# Altium integrated library ON Semi ESD Protection Diodes & Arrays.IntLib: 286 symbols (part 2 of 8)
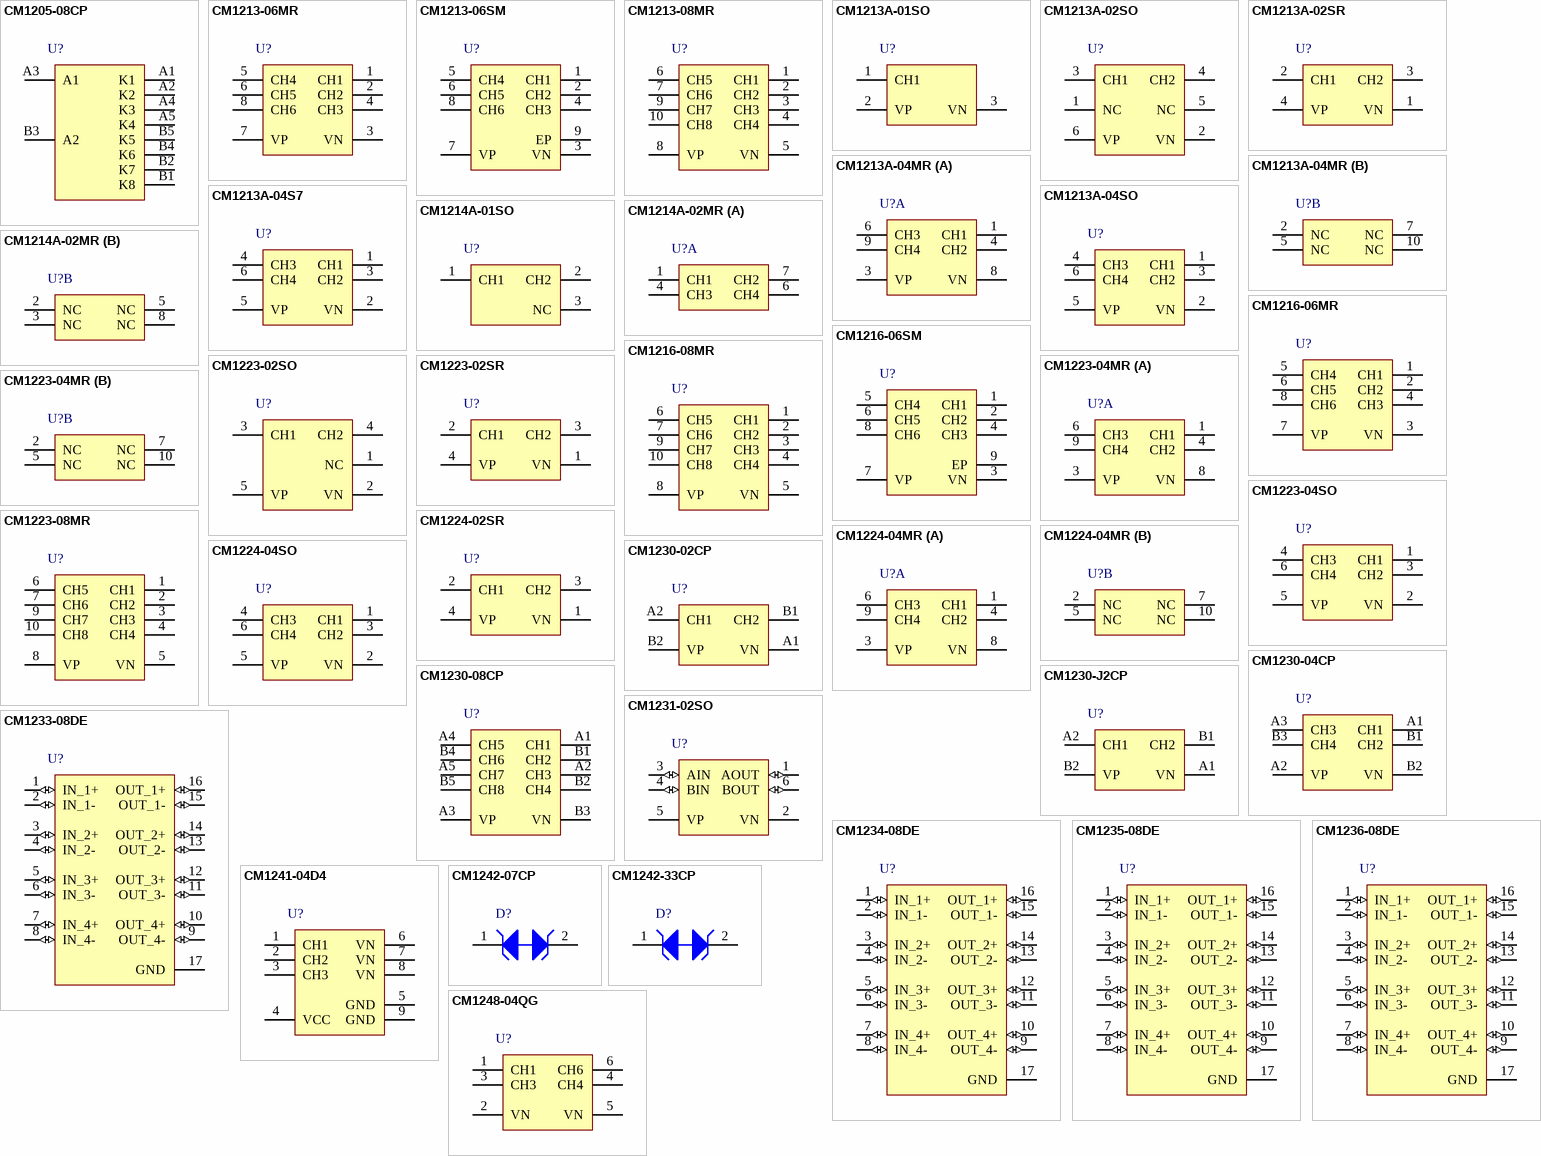
[diagram p8: symbols CM1205-08CP to CM1248-04QG]

## CM1241-04D4
designator U?
4-Channel Low Capacitance Dual-Voltage ESD Protection Array, 8-Pin WDFN, Pb-Free, Tape and Reel; Manufacturer: On Semiconductor; PartNumber: CM1241-04D4; C Max (pF): 1.5; Direction: Unidirectional; IR Max (uA): 0.1; Number of Lines: 4; DatasheetVersion: Rev. 4; PackageVersion: Rev. O, 07/2010; PackageReference: WDFN-8-511BF-01; PackageDescription: 8-Pin Small Outline No-Lead, Body 1.7 x 1.35 mm, Pitch 0.4 mm; Supplier 1: Digi-Key; Supplier Part Number 1: CM1241-04D4OSTR-ND; Supplier 2: Digi-Key; Supplier Part Number 2: CM1241-04D4OSCT-ND; Supplier 3: Digi-Key; Supplier Part Number 3: CM1241-04D4OSDKR-ND; Supplier 4: Farnell; Supplier Part Number 4: 1961705; Supplier 5: Newark; Supplier Part Number 5: 99R2534; Supplier 6: Mouser; Supplier Part Number 6: 748-CM1241-04D4; Packing: Tape and Reel; RoHS: Pb-Free; Mounting Technology: Surface Mount; ComponentLink1Description: Manufacturer URL; ComponentLink1URL: http://www.onsemi.com/; ComponentLink2Description: Datasheet; ComponentLink2URL: http://www.onsemi.com/pub_link/Collateral/CM1241-D.PDF; ComponentLink3Description: Package Specification; ComponentLink3URL: http://www.onsemi.com/pub_link/Collateral/511BF.PDF
footprint ONSC-WDFN-8-511BF-01_V (SON, 8-Leads, Body 1.7x1.35mm, Pitch 0.4mm, Thermal Pad 1.3x0.5mm)
pins: 1 CH1 "LV Low-capacitance ESD Channel", 2 CH2 "LV Low-capacitance ESD Channel", 3 CH3 "LV Low-capacitance ESD Channel", 4 VCC (power) "HV ESD Channel", 5 GND (power) "Ground", 6 VN (power) "Negative Voltage Supply Rail", 7 VN (power) "Negative Voltage Supply Rail", 8 VN (power) "Negative Voltage Supply Rail", 9 GND (power) "Die Attach Pad (Ground)"

## CM1242-07CP
designator D?
1-Channel Ultra Small ESD Protection Device, 2-Pin WLCSP, Pb-Free, Tape and Reel; Manufacturer: On Semiconductor; PartNumber: CM1242-07CP; Direction: Bidirectional; IR Max (uA): 0.1; Number of Lines: 1; DatasheetVersion: Rev. 5; PackageVersion: Rev. A, 10/2013; PackageReference: WLCSP-2-567AV-01; PackageDescription: 2-Ball Wafer Level Chip Scale Package, Body 0.6 x 0.3 mm, Pitch 0.36 mm; Supplier 1: Digi-Key; Supplier Part Number 1: CM1242-07CPOSTR-ND; Supplier 2: Digi-Key; Supplier Part Number 2: CM1242-07CPOSCT-ND; Supplier 3: Digi-Key; Supplier Part Number 3: CM1242-07CPOSDKR-ND; Supplier 4: Farnell; Supplier Part Number 4: 2080978; Supplier 5: Newark; Supplier Part Number 5: 52T7663; Supplier 6: Mouser; Supplier Part Number 6: 863-CM1242-07CP; Packing: Tape and Reel; RoHS: Pb-Free; Mounting Technology: Surface Mount; ComponentLink1Description: Manufacturer URL; ComponentLink1URL: http://www.onsemi.com/; ComponentLink2Description: Datasheet; ComponentLink2URL: http://www.onsemi.com/pub_link/Collateral/CM1242-07CP-D.PDF; ComponentLink3Description: Package Specification; ComponentLink3URL: http://www.onsemi.com/pub_link/Collateral/567AV.PDF
footprint ONSC-WLCSP-2-567AV-01_V (Molded, 2-Leads, Body 0.6x0.3mm, Pitch 0.48mm)
pins: 1 A "ESD Channel Pin 1", 2 B "ESD Channel Pin 2"

## CM1242-33CP
designator D?
1-Channel ESD Protection Device, 2-Pin WLCSP, Pb-Free, Tape and Reel; Manufacturer: On Semiconductor; PartNumber: CM1242-33CP; C Max (pF): 66; Direction: Bidirectional; IR Max (uA): 0.5; Number of Lines: 1; DatasheetVersion: Rev. 6; PackageVersion: Rev. A, 10/2013; PackageReference: WLCSP-2-567AV-01; PackageDescription: 2-Ball Wafer Level Chip Scale Package, Body 0.6 x 0.3 mm, Pitch 0.36 mm; Supplier 1: Digi-Key; Supplier Part Number 1: CM1242-33CP-ND; Supplier 2: Farnell; Supplier Part Number 2: 1908086; Supplier 3: Newark; Supplier Part Number 3: 55T2134; Supplier 4: Mouser; Supplier Part Number 4: 863-CM1242-33CP; Packing: Tape and Reel; RoHS: Pb-Free; Mounting Technology: Surface Mount; ComponentLink1Description: Manufacturer URL; ComponentLink1URL: http://www.onsemi.com/; ComponentLink2Description: Datasheet; ComponentLink2URL: http://www.onsemi.com/pub_link/Collateral/CM1242-33CP-D.PDF; ComponentLink3Description: Package Specification; ComponentLink3URL: http://www.onsemi.com/pub_link/Collateral/567AV.PDF
footprint ONSC-WLCSP-2-567AV-01_V (Molded, 2-Leads, Body 0.6x0.3mm, Pitch 0.48mm)
pins: 1 A "ESD Channel Pin 1", 2 B "ESD Channel Pin 2"

## CM1248-04QG
designator U?
Low Capacitance Transient Voltage Suppressor / ESD Protector, 6-Pin UDFN, Pb-Free, Tape and Reel; Manufacturer: On Semiconductor; PartNumber: CM1248-04QG; C Max (pF): 15; Direction: Unidirectional; Number of Lines: 4; DatasheetVersion: Rev. 4; PackageVersion: Rev. O, 07/2010; PackageReference: UDFN-6-517BM-01; PackageDescription: 6-Pin Small Outline No-Lead, Body 1.25 x 1 mm, Pitch 0.4 mm; Supplier 1: Digi-Key; Supplier Part Number 1: CM1248-04QG-ND; Supplier 2: Mouser; Supplier Part Number 2: 748-CM1248-04QG; Packing: Tape and Reel; RoHS: Pb-Free; Mounting Technology: Surface Mount; ComponentLink1Description: Manufacturer URL; ComponentLink1URL: http://www.onsemi.com/; ComponentLink2Description: Datasheet; ComponentLink2URL: http://www.onsemi.com/pub_link/Collateral/CM1248-04QG-D.PDF; ComponentLink3Description: Package Specification; ComponentLink3URL: http://www.onsemi.com/pub_link/Collateral/517BM.PDF
footprint ONSC-UDFN-6-517BM-01_V (SON, 6-Leads, Body 1.25x1mm, Pitch 0.4mm)
pins: 1 CH1 "The cathode of the respective TVS diode, which should be connected to the node requiring transient voltage protection.", 2 VN (power) "The anode of the TVS diodes.", 3 CH3 "The cathode of the respective TVS diode, which should be connected to the node requiring transient voltage protection.", 4 CH4 "The cathode of the respective TVS diode, which should be connected to the node requiring transient voltage protection.", 5 VN (power) "The anode of the TVS diodes.", 6 CH6 "The cathode of the respective TVS diode, which should be connected to the node requiring transient voltage protection."

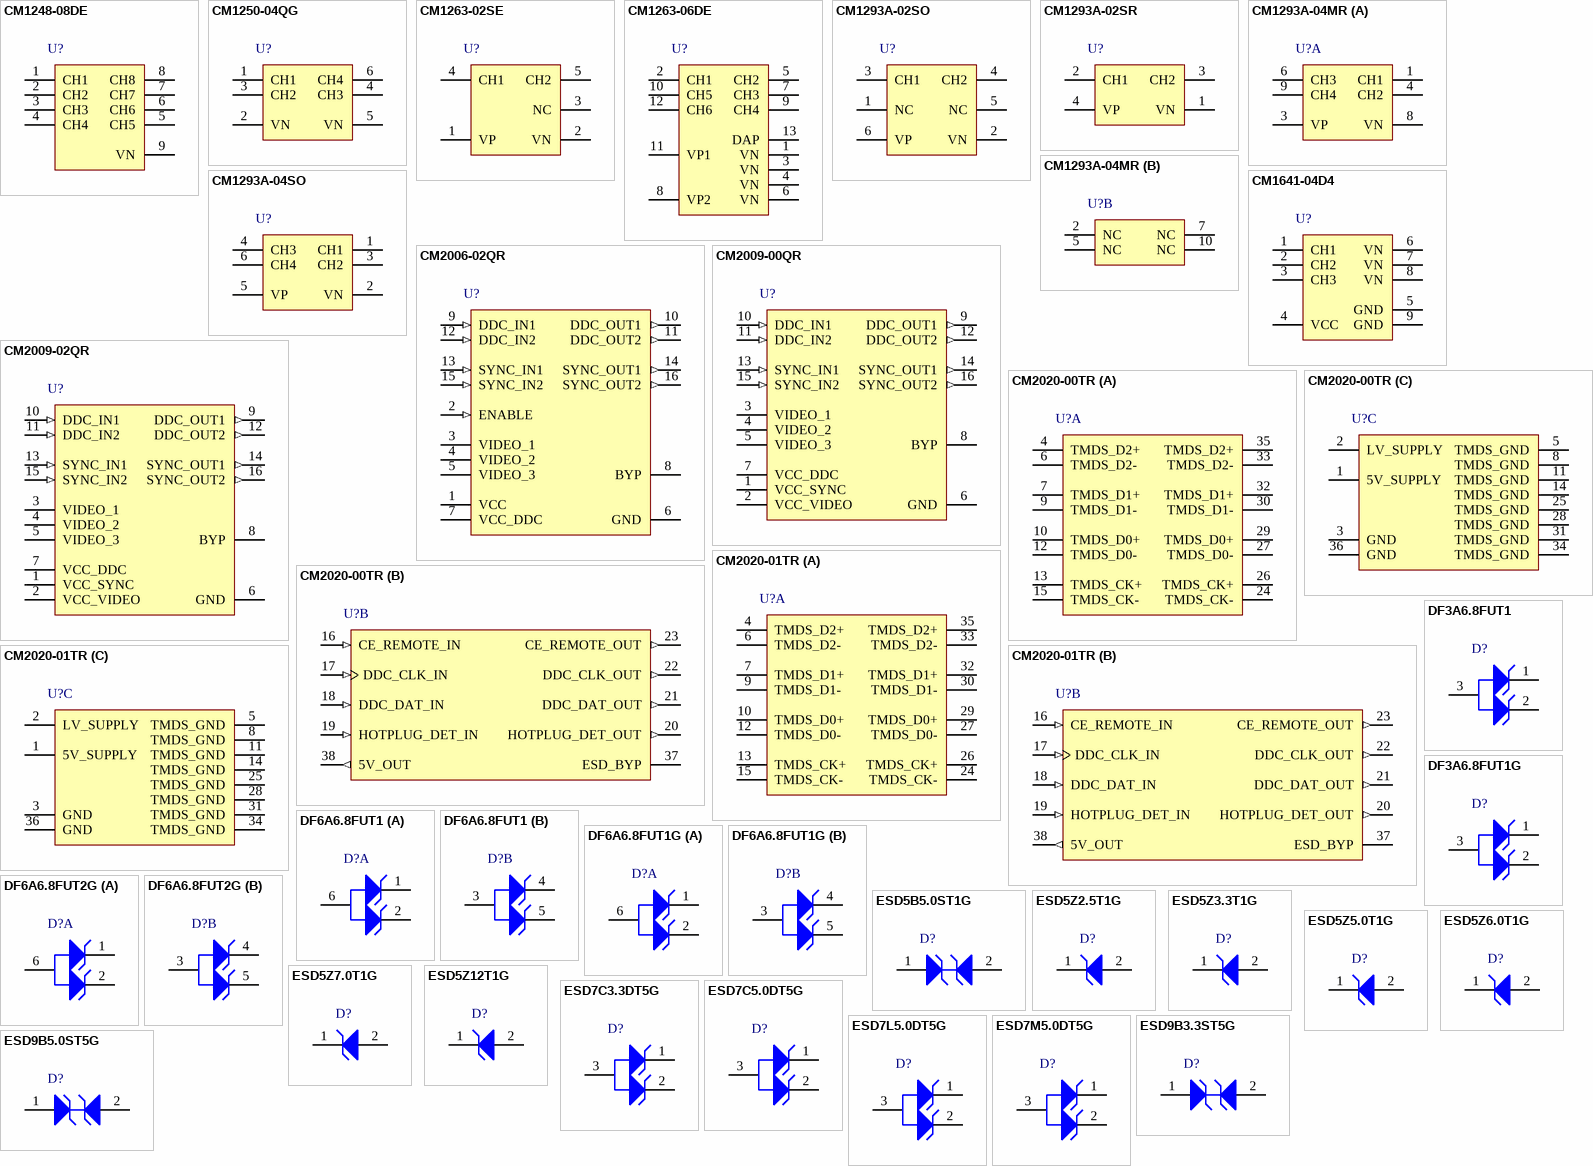
[diagram p1: symbols CM1248-08DE to ESD9B5.0ST5G]

## CM1248-08DE
designator U?
Low Capacitance Transient Voltage Suppressor / ESD Protector, 8-Pin UDFN, Pb-Free, Tape and Reel; Manufacturer: On Semiconductor; PartNumber: CM1248-08DE; Direction: Unidirectional; Number of Lines: 8; DatasheetVersion: Rev. 4; PackageVersion: Rev. O, 11/2009; PackageReference: UDFN-8-517BC-01; PackageDescription: 8-Pin Small Outline No-Lead, Body 1.7 x 1.35 mm, Pitch 0.4 mm; Supplier 1: Digi-Key; Supplier Part Number 1: CM1248-08DE-ND; Supplier 2: Mouser; Supplier Part Number 2: 748-CM1248-08DE; Packing: Tape and Reel; RoHS: Pb-Free; Mounting Technology: Surface Mount; ComponentLink1Description: Manufacturer URL; ComponentLink1URL: http://www.onsemi.com/; ComponentLink2Description: Datasheet; ComponentLink2URL: http://www.onsemi.com/pub_link/Collateral/CM1248-08DE-D.PDF; ComponentLink3Description: Package Specification; ComponentLink3URL: http://www.onsemi.com/pub_link/Collateral/517BC.PDF
footprint ONSC-UDFN-8-517BC-01_V (SON, 8-Leads, Body 1.7x1.35mm, Pitch 0.4mm, Thermal Pad 1.4x0.5mm)
pins: 1 CH1 "The cathode of the respective TVS diode, which should be connected to the node requiring transient voltage protection.", 2 CH2 "The cathode of the respective TVS diode, which should be connected to the node requiring transient voltage protection.", 3 CH3 "The cathode of the respective TVS diode, which should be connected to the node requiring transient voltage protection.", 4 CH4 "The cathode of the respective TVS diode, which should be connected to the node requiring transient voltage protection.", 5 CH5 "The cathode of the respective TVS diode, which should be connected to the node requiring transient voltage protection.", 6 CH6 "The cathode of the respective TVS diode, which should be connected to the node requiring transient voltage protection.", 7 CH7 "The cathode of the respective TVS diode, which should be connected to the node requiring transient voltage protection.", 8 CH8 "The cathode of the respective TVS diode, which should be connected to the node requiring transient voltage protection.", 9 VN (power) "The anode of the TVS diodes."

## CM1250-04QG
designator U?
Low Capacitance Transient Voltage Suppressor / ESD Protector, 6-Pin UDFN, Pb-Free, Tape and Reel; Manufacturer: On Semiconductor; PartNumber: CM1250-04QG; Direction: Unidirectional; IR Max (uA): 0.1; Number of Lines: 4; DatasheetVersion: Rev. 4; PackageVersion: Rev. O, 07/2010; PackageReference: UDFN-6-517BM-01; PackageDescription: 6-Pin Small Outline No-Lead, Body 1.25 x 1 mm, Pitch 0.4 mm; Supplier 1: Digi-Key; Supplier Part Number 1: CM1250-04QG-ND; Supplier 2: Mouser; Supplier Part Number 2: 748-CM1250-04QG; Packing: Tape and Reel; RoHS: Pb-Free; Mounting Technology: Surface Mount; ComponentLink1Description: Manufacturer URL; ComponentLink1URL: http://www.onsemi.com/; ComponentLink2Description: Datasheet; ComponentLink2URL: http://www.onsemi.com/pub_link/Collateral/CM1250-04QG.PDF; ComponentLink3Description: Package Specification; ComponentLink3URL: http://www.onsemi.com/pub_link/Collateral/517BM.PDF
footprint ONSC-UDFN-6-517BM-01_V (SON, 6-Leads, Body 1.25x1mm, Pitch 0.4mm)
pins: 1 CH1 "The cathode of the respective TVS diode, which should be connected to the node requiring transient voltage protection", 2 VN (power) "The anode of the TVS diodes.", 3 CH2 "The cathode of the respective TVS diode, which should be connected to the node requiring transient voltage protection", 4 CH3 "The cathode of the respective TVS diode, which should be connected to the node requiring transient voltage protection", 5 VN (power) "The anode of the TVS diodes.", 6 CH4 "The cathode of the respective TVS diode, which should be connected to the node requiring transient voltage protection"

## CM1263-02SE
designator U?
Low Capacitance ESD Protection for High Speed Serial Interface, 5-Pin SOT-553, Pb-Free, Tape and Reel; Manufacturer: On Semiconductor; PartNumber: CM1263-02SE; Direction: Unidirectional; IR Max (uA): 1; Number of Lines: 2; DatasheetVersion: Rev. 3; PackageVersion: Rev. B, 05/2005; PackageReference: SOT-553-5-463B_B; PackageDescription: 5-Pin Small Outline Transistor, Body 1.6 x 1.2 mm, Pitch 0.5 mm; Supplier 1: Digi-Key; Supplier Part Number 1: CM1263-02SE-ND; Supplier 2: Mouser; Supplier Part Number 2: 748-CM1263-02SE; Packing: Tape and Reel; RoHS: Pb-Free; Mounting Technology: Surface Mount; ComponentLink1Description: Manufacturer URL; ComponentLink1URL: http://www.onsemi.com/; ComponentLink2Description: Datasheet; ComponentLink2URL: http://www.onsemi.com/pub_link/Collateral/CM1263-02SE-D.PDF; ComponentLink3Description: Package Specification; ComponentLink3URL: http://www.onsemi.com/pub_link/Collateral/NZQA5V6AXV5%20SERIES-D.PDF
footprint ONSC-SOT-553-5-463B_B_V (SOT23, 5-Leads, Body 1.6x1.2mm, Pitch 0.5mm)
pins: 1 VP (power), 2 VN (power), 3 NC, 4 CH1, 5 CH2

## CM1263-06DE
designator U?
Low Capacitance ESD Protection for High Speed Serial Interface, 12-Pin UDFN, Pb-Free, Tape and Reel; Manufacturer: On Semiconductor; PartNumber: CM1263-06DE; C Max (pF): 1.2; Direction: Unidirectional; IR Max (uA): 1; Number of Lines: 6; DatasheetVersion: Rev. 5; PackageVersion: Rev. O, 11/2009; PackageReference: UDFN-12-517BD-01; PackageDescription: 12-Pin Small Outline No-Lead, Body 2.5 x 1.35 mm, Pitch 0.4 mm; Supplier 1: Digi-Key; Supplier Part Number 1: CM1263-06DE-ND; Supplier 2: Newark; Supplier Part Number 2: 99R2539; Supplier 3: Mouser; Supplier Part Number 3: 748-CM1263-06DE; Packing: Tape and Reel; RoHS: Pb-Free; Mounting Technology: Surface Mount; ComponentLink1Description: Manufacturer URL; ComponentLink1URL: http://www.onsemi.com/; ComponentLink2Description: Datasheet; ComponentLink2URL: http://www.onsemi.com/pub_link/Collateral/CM1263-06DE-D.PDF; ComponentLink3Description: Package Specification; ComponentLink3URL: http://www.onsemi.com/pub_link/Collateral/517BD.PDF
footprint ONSC-UDFN-12-517BD-01_V (SON, 12-Leads, Body 2.5x1.35mm, Pitch 0.4mm, Thermal Pad 2.2x0.5mm)
pins: 1 VN (power) "VN*", 2 CH1 "(CH1) ESD Channel #1", 3 VN (power) "VN*", 4 VN (power) "VN*", 5 CH2 "(CH2) ESD Channel #2", 6 VN (power) "VN*", 7 CH3 "(CH3) ESD Channel #3", 8 VP2 (power) "VP2 for Channels 2, 3, and 4", 9 CH4 "(CH4) ESD Channel #4", 10 CH5 "(CH5) ESD Channel #5", 11 VP1 (power) "VP1 for Channels1, 5, and 6", 12 CH6 "(CH6) ESD Channel #6", 13 DAP (power) "Backside, GND Pad, VN*"

## CM1293A-02SO
designator U?
2-Channel Low Capacitance ESD Protection Array, 6-Pin SC-74, Pb-Free, Tape and Reel; Manufacturer: On Semiconductor; PartNumber: CM1293A-02SO; C Max (pF): 2; Direction: Unidirectional; IR Max (uA): 1; PPK Max (W): 0.225; DatasheetVersion: Rev. 8; PackageVersion: Rev. N, 06/2012; PackageReference: SC-74-6-318F-05; PackageDescription: 6-Pin Small Outline Transistor, Body 3 x 1.5 mm, Pitch 0.95 mm; Supplier 1: Digi-Key; Supplier Part Number 1: CM1293A-02SO-ND; Supplier 2: Mouser; Supplier Part Number 2: 748-CM1293A-02SO; Number of Lines: 2; Packing: Tape and Reel; RoHS: Pb-Free; Mounting Technology: Surface Mount; ComponentLink1Description: Manufacturer URL; ComponentLink1URL: http://www.onsemi.com/; ComponentLink2Description: Datasheet; ComponentLink2URL: http://www.onsemi.com/pub_link/Collateral/CM1293A-D.PDF; ComponentLink3Description: Package Specification; ComponentLink3URL: http://www.onsemi.com/pub_link/Collateral/318F-05.PDF
footprint ONSC-SC-74-6-318F-05_V (SOT23, 6-Leads, Body 3x1.5mm, Pitch 0.95mm)
pins: 1 NC "No Connect", 2 VN (power) "Negative Voltage Supply Rail", 3 CH1 "ESD Channel", 4 CH2 "ESD Channel", 5 NC "No Connect", 6 VP (power) "Positive Voltage Supply Rail"

## CM1293A-02SR
designator U?
2-Channel Low Capacitance ESD Protection Array, 4-Pin SOT-143, Pb-Free, Tape and Reel; Manufacturer: On Semiconductor; PartNumber: CM1293A-02SR; C Max (pF): 2; Direction: Unidirectional; IR Max (uA): 1; PPK Max (W): 0.225; DatasheetVersion: Rev. 8; PackageVersion: Rev. U, 09/2011; PackageReference: SOT-143-4-318A-06; PackageDescription: 4-Pin Small Outline Transistor, Body 2.925 x 1.3 mm, Pitch 1.92 mm; Supplier 1: Digi-Key; Supplier Part Number 1: CM1293A-02SROSTR-ND; Supplier 2: Digi-Key; Supplier Part Number 2: CM1293A-02SROSCT-ND; Supplier 3: Digi-Key; Supplier Part Number 3: CM1293A-02SROSDKR-ND; Supplier 4: Newark; Supplier Part Number 4: 99R2542; Supplier 5: Mouser; Supplier Part Number 5: 748-CM1293A-02SR; Number of Lines: 2; Packing: Tape and Reel; RoHS: Pb-Free; Mounting Technology: Surface Mount; ComponentLink1Description: Manufacturer URL; ComponentLink1URL: http://www.onsemi.com/; ComponentLink2Description: Datasheet; ComponentLink2URL: http://www.onsemi.com/pub_link/Collateral/CM1293A-D.PDF; ComponentLink3Description: Package Specification; ComponentLink3URL: http://www.onsemi.com/pub_link/Collateral/318A.PDF
footprint ONSC-SOT-143-4-318A-06_V (SOT143, 4-Leads, Body 2.925x1.3mm, Pitch 1.92mm)
pins: 1 VN (power) "Negative Voltage Supply Rail", 2 CH1 "ESD Channel", 3 CH2 "ESD Channel", 4 VP (power) "Positive Voltage Supply Rail"

## CM1293A-04MR
designator U?
4-Channel Low Capacitance ESD Protection Array, 10-Pin MSOP, Pb-Free, Tape and Reel; Manufacturer: On Semiconductor; PartNumber: CM1293A-04MR; C Max (pF): 2; Direction: Unidirectional; IR Max (uA): 1; Number of Lines: 4; PPK Max (W): 0.4; DatasheetVersion: Rev. 8; PackageVersion: Rev. O, 12/2008; PackageReference: MSOP-10-846AE-01; PackageDescription: 10-Pin Small Outline Package, Body 3 x 3 mm, Pitch 0.5 mm; Supplier 1: Digi-Key; Supplier Part Number 1: CM1293A-04MR-ND; Packing: Tape and Reel; RoHS: Pb-Free; Mounting Technology: Surface Mount; Code_JEDEC: MO-187; ComponentLink1Description: Manufacturer URL; ComponentLink1URL: http://www.onsemi.com/; ComponentLink2Description: Datasheet; ComponentLink2URL: http://www.onsemi.com/pub_link/Collateral/CM1293A-D.PDF; ComponentLink3Description: Package Specification; ComponentLink3URL: http://www.onsemi.com/pub_link/Collateral/846AE.PDF
footprint ONSC-MSOP-10-846AE-01_N (SOP, 10-Leads, Body 3.1x3.1mm, Pitch 0.5mm, IPC Medium Density)
footprint ONSC-MSOP-10-846AE-01_L (SOP, 10-Leads, Body 3.1x3.1mm, Pitch 0.5mm, IPC High Density)
footprint ONSC-MSOP-10-846AE-01_M (SOP, 10-Leads, Body 3.1x3.1mm, Pitch 0.5mm, IPC Low Density)
part A pins: 1 CH1 "ESD Channel", 3 VP (power) "Positive Voltage Supply Rail", 4 CH2 "ESD Channel", 6 CH3 "ESD Channel", 8 VN (power) "Negative Voltage Supply Rail", 9 CH4 "ESD Channel"
part B pins: 2 NC "No Connect", 5 NC "No Connect", 7 NC "No Connect", 10 NC "No Connect"

## CM1293A-04SO
designator U?
4-Channel Low Capacitance ESD Protection Array, 6-Pin SC-74, Pb-Free, Tape and Reel; Manufacturer: On Semiconductor; PartNumber: CM1293A-04SO; C Max (pF): 2; Direction: Unidirectional; IR Max (uA): 1; Number of Lines: 4; PPK Max (W): 0.225; DatasheetVersion: Rev. 0; PackageVersion: Rev. N, 06/2012; PackageReference: SC-74-6-318F-05; PackageDescription: 6-Pin Small Outline Transistor, Body 3 x 1.5 mm, Pitch 0.95 mm; Supplier 1: Digi-Key; Supplier Part Number 1: CM1293A-04SOOSTR-ND; Supplier 2: Digi-Key; Supplier Part Number 2: CM1293A-04SOOSCT-ND; Supplier 3: Digi-Key; Supplier Part Number 3: CM1293A-04SOOSDKR-ND; Supplier 4: Mouser; Supplier Part Number 4: 748-CM1293A-04SO; Packing: Tape and Reel; RoHS: Pb-Free; Mounting Technology: Surface Mount; ComponentLink1Description: Manufacturer URL; ComponentLink1URL: http://www.onsemi.com/; ComponentLink2Description: Datasheet; ComponentLink2URL: http://www.onsemi.com/pub_link/Collateral/CM1293A-04SO-D.PDF; ComponentLink3Description: Package Specification; ComponentLink3URL: http://www.onsemi.com/pub_link/Collateral/318F-05.PDF
footprint ONSC-SC-74-6-318F-05_V (SOT23, 6-Leads, Body 3x1.5mm, Pitch 0.95mm)
pins: 1 CH1 "ESD Channel", 2 VN (power) "Negative Voltage Supply Rail", 3 CH2 "ESD Channel", 4 CH3 "ESD Channel", 5 VP (power) "Positive Voltage Supply Rail", 6 CH4 "ESD Channel"

## CM1641-04D4
designator U?
4-Channel Low Capacitance Dual-Voltage ESD Protection Array, 8-Pin UDFN, Pb-Free, Tape and Reel; Manufacturer: On Semiconductor; PartNumber: CM1641-04D4; C Max (pF): 1.5; Direction: Unidirectional; IR Max (uA): 0.1; Number of Lines: 4; DatasheetVersion: Rev. 5; PackageVersion: Rev. O, 11/2009; PackageReference: UDFN-8-517BC-01; PackageDescription: 8-Pin Small Outline No-Lead, Body 1.7 x 1.35 mm, Pitch 0.4 mm; Supplier 1: Digi-Key; Supplier Part Number 1: CM1641-04D4-ND; Supplier 2: Mouser; Supplier Part Number 2: 748-CM1641-04D4; Packing: Tape and Reel; RoHS: Pb-Free; Mounting Technology: Surface Mount; ComponentLink1Description: Manufacturer URL; ComponentLink1URL: http://www.onsemi.com/; ComponentLink2Description: Datasheet; ComponentLink2URL: http://www.onsemi.com/pub_link/Collateral/CM1641-D.PDF; ComponentLink3Description: Package Specification; ComponentLink3URL: http://www.onsemi.com/pub_link/Collateral/517BC.PDF
footprint ONSC-UDFN-8-517BC-01_V (SON, 8-Leads, Body 1.7x1.35mm, Pitch 0.4mm, Thermal Pad 1.4x0.5mm)
pins: 1 CH1 "LV Low-capacitance ESD Channel", 2 CH2 "LV Low-capacitance ESD Channel", 3 CH3 "LV Low-capacitance ESD Channel", 4 VCC (power) "HV ESD Channel", 5 GND (power) "Ground", 6 VN (power) "Negative Voltage Supply Rail", 7 VN (power) "Negative Voltage Supply Rail", 8 VN (power) "Negative Voltage Supply Rail", 9 GND (power) "Die Attach Pad (Ground)"

## CM2006-02QR
designator U?
Praetorian(R) L-C LCD and Camera EMI Filter Array with ESD Protection, 16-Pin QSOP, Pb-Free, Tape and Reel; Manufacturer: On Semiconductor; PartNumber: CM2006-02QR; Direction: Unidirectional; Number of Lines: 7; DatasheetVersion: Rev. 3; PackageVersion: Rev. A, 03/2011; PackageReference: QSOP-16-492-01; PackageDescription: 16-Pin Small Outline Package, Body 4.89 x 3.9 mm, Pitch 0.635 mm; Supplier 1: Digi-Key; Supplier Part Number 1: CM2006-02QROSTR-ND; Supplier 2: Digi-Key; Supplier Part Number 2: CM2006-02QROSCT-ND; Supplier 3: Digi-Key; Supplier Part Number 3: CM2006-02QROSDKR-ND; Supplier 4: Mouser; Supplier Part Number 4: 748-CM2006-02QR; Packing: Tape and Reel; RoHS: Pb-Free; Mounting Technology: Surface Mount; ComponentLink1Description: Manufacturer URL; ComponentLink1URL: http://www.onsemi.com/; ComponentLink2Description: Datasheet; ComponentLink2URL: http://www.onsemi.com/pub_link/Collateral/CM2006-D.PDF; ComponentLink3Description: Package Specification; ComponentLink3URL: http://www.onsemi.com/pub_link/Collateral/492-01.PDF
footprint ONSC-QSOP-16-492-01_V (SOP, 16-Leads, Body 4.9x3.9mm, Pitch 0.635mm)
pins: 1 VCC (power) "This is a supply input for the SYNC_1 and SYNC_2 level shifters, video protection and the DDC circuits.", 2 ENABLE (in) "Active high enable. Disables the Sync buffer outputs when low.", 3 VIDEO_1 "Video signal ESD protection channel. This pin is typically tied one of the video lines between the controller device and the video connector", 4 VIDEO_2 "Video signal ESD protection channel. This pin is typically tied one of the video lines between the controller device and the video connector", 5 VIDEO_3 "Video signal ESD protection channel. This pin is typically tied one of the video lines between the controller device and the video connector", 6 GND (power) "Ground reference supply pin.", 7 VCC_DDC (power) "This is an isolated supply input for the DDC_1 and DDC_2 level-shifting N-FET gates.", 8 BYP "An external 0.22 uF bypass capacitor is required on this pin.", 9 DDC_IN1 (in) "DDC signal input. Connects to the video connector side of one of the DDC lines.signal o", 10 DDC_OUT1 (out) "DDC signal output. Connects to the monitor DDC logic.", 11 DDC_OUT2 (out) "DDC signal output. Connects to the monitor DDC logic.", 12 DDC_IN2 (in) "DDC signal input. Connects to the video connector side of one of the DDC lines", 13 SYNC_IN1 (in) "Sync signal buffer input. Connects to the video connector side of one of the sync lines.", 14 SYNC_OUT1 (out) "Sync signal buffer output. Connects to the monitor SYNC logic.", 15 SYNC_IN2 (in) "Sync signal buffer input. Connects to the video connector side of one of the sync lines.", 16 SYNC_OUT2 (out) "Sync signal buffer output. Connects to the monitor SYNC logic."

## CM2009-00QR
designator U?
VGA Port Companion Circuit, 16-Pin QSOP, Pb-Free, Tape and Reel; Manufacturer: On Semiconductor; PartNumber: CM2009-00QR; Direction: Unidirectional; IR Max (uA): 10; Number of Lines: 7; PPK Max (W): 0.5; DatasheetVersion: Rev. 5; PackageVersion: Rev. A, 03/2011; PackageReference: QSOP-16-492-01; PackageDescription: 16-Pin Small Outline Package, Body 4.89 x 3.9 mm, Pitch 0.635 mm; Supplier 1: Digi-Key; Supplier Part Number 1: CM2009-00QROSTR-ND; Supplier 2: Digi-Key; Supplier Part Number 2: CM2009-00QROSCT-ND; Supplier 3: Digi-Key; Supplier Part Number 3: CM2009-00QROSDKR-ND; Supplier 4: Newark; Supplier Part Number 4: 99R2635; Supplier 5: Mouser; Supplier Part Number 5: 748-CM2009-00QR; Packing: Tape and Reel; RoHS: Pb-Free; Mounting Technology: Surface Mount; ComponentLink1Description: Manufacturer URL; ComponentLink1URL: http://www.onsemi.com/; ComponentLink2Description: Datasheet; ComponentLink2URL: http://www.onsemi.com/pub_link/Collateral/CM2009-D.PDF; ComponentLink3Description: Package Specification; ComponentLink3URL: http://www.onsemi.com/pub_link/Collateral/492-01.PDF
footprint ONSC-QSOP-16-492-01_V (SOP, 16-Leads, Body 4.9x3.9mm, Pitch 0.635mm)
pins: 1 VCC_SYNC (power) "This is an isolated supply input for the SYNC_1 and SYNC_2 level shifters and their associated ESD protection circuits", 2 VCC_VIDEO (power) "This is a supply pin specifically for the VIDEO_1, VIDEO_2 and VIDEO_3 ESD protection circuits", 3 VIDEO_1 "Video signal ESD protection channel. This pin is typically tied one of the video lines between the VGA controller device and the video connector.", 4 VIDEO_2 "Video signal ESD protection channel. This pin is typically tied one of the video lines between the VGA controller device and the video connector.", 5 VIDEO_3 "Video signal ESD protection channel. This pin is typically tied one of the video lines between the VGA controller device and the video connector.", 6 GND (power) "Ground reference supply pin.", 7 VCC_DDC (power) "This is an isolated supply input for the DDC_1 and DDC_2 level-shifting N-FET gates", 8 BYP "This input is used to connect an external 0.2  uF bypass capacitor to the DDC circuits, resulting in an increased ESD withstand voltage rating for these circuits (+/-8 kV with vs. +/-4 kV without).", 9 DDC_OUT1 (out) "DDC signal output. Connects to the video connector side of one of the sync lines", 10 DDC_IN1 (in) "DDC signal input. Connects to the VGA controller side of one of the sync lines.", 11 DDC_IN2 (in) "DDC signal input. Connects to the VGA controller side of one of the sync lines.", 12 DDC_OUT2 (out) "DDC signal output. Connects to the video connector side of one of the sync lines", 13 SYNC_IN1 (in) "Sync signal buffer input. Connects to the VGA controller side of one of the sync lines.", 14 SYNC_OUT1 (out) "Sync signal buffer output. Connects to the video connector side of one of the sync lines.", 15 SYNC_IN2 (in) "Sync signal buffer input. Connects to the VGA controller side of one of the sync lines", 16 SYNC_OUT2 (out) "Sync signal buffer output. Connects to the video connector side of one of the sync lines."

## CM2009-02QR
designator U?
VGA Port Companion Circuit, 16-Pin QSOP, Pb-Free, Tape and Reel; Manufacturer: On Semiconductor; PartNumber: CM2009-02QR; Direction: Unidirectional; IR Max (uA): 10; Number of Lines: 7; PPK Max (W): 0.5; DatasheetVersion: Rev. 5; PackageVersion: Rev. A, 03/2011; PackageReference: QSOP-16-492-01; PackageDescription: 16-Pin Small Outline Package, Body 4.89 x 3.9 mm, Pitch 0.635 mm; Supplier 1: Digi-Key; Supplier Part Number 1: CM2009-02QROSTR-ND; Supplier 2: Digi-Key; Supplier Part Number 2: CM2009-02QROSCT-ND; Supplier 3: Digi-Key; Supplier Part Number 3: CM2009-02QROSDKR-ND; Supplier 4: Newark; Supplier Part Number 4: 99R2636; Supplier 5: Mouser; Supplier Part Number 5: 748-CM2009-02QR; Packing: Tape and Reel; RoHS: Pb-Free; Mounting Technology: Surface Mount; ComponentLink1Description: Manufacturer URL; ComponentLink1URL: http://www.onsemi.com/; ComponentLink2Description: Datasheet; ComponentLink2URL: http://www.onsemi.com/pub_link/Collateral/CM2009-D.PDF; ComponentLink3Description: Package Specification; ComponentLink3URL: http://www.onsemi.com/pub_link/Collateral/492-01.PDF
footprint ONSC-QSOP-16-492-01_V (SOP, 16-Leads, Body 4.9x3.9mm, Pitch 0.635mm)
pins: 1 VCC_SYNC (power) "This is an isolated supply input for the SYNC_1 and SYNC_2 level shifters and their associated ESD protection circuits", 2 VCC_VIDEO (power) "This is a supply pin specifically for the VIDEO_1, VIDEO_2 and VIDEO_3 ESD protection circuits", 3 VIDEO_1 "Video signal ESD protection channel. This pin is typically tied one of the video lines between the VGA controller device and the video connector.", 4 VIDEO_2 "Video signal ESD protection channel. This pin is typically tied one of the video lines between the VGA controller device and the video connector.", 5 VIDEO_3 "Video signal ESD protection channel. This pin is typically tied one of the video lines between the VGA controller device and the video connector.", 6 GND (power) "Ground reference supply pin.", 7 VCC_DDC (power) "This is an isolated supply input for the DDC_1 and DDC_2 level-shifting N-FET gates", 8 BYP "This input is used to connect an external 0.2  uF bypass capacitor to the DDC circuits, resulting in an increased ESD withstand voltage rating for these circuits (+/-8 kV with vs. +/-4 kV without).", 9 DDC_OUT1 (out) "DDC signal output. Connects to the video connector side of one of the sync lines", 10 DDC_IN1 (in) "DDC signal input. Connects to the VGA controller side of one of the sync lines.", 11 DDC_IN2 (in) "DDC signal input. Connects to the VGA controller side of one of the sync lines.", 12 DDC_OUT2 (out) "DDC signal output. Connects to the video connector side of one of the sync lines", 13 SYNC_IN1 (in) "Sync signal buffer input. Connects to the VGA controller side of one of the sync lines.", 14 SYNC_OUT1 (out) "Sync signal buffer output. Connects to the video connector side of one of the sync lines.", 15 SYNC_IN2 (in) "Sync signal buffer input. Connects to the VGA controller side of one of the sync lines", 16 SYNC_OUT2 (out) "Sync signal buffer output. Connects to the video connector side of one of the sync lines."

## CM2020-00TR
designator U?
HDMI Transmitter Port Protection and Interface Device, 38-Pin TSSOP, Pb-Free, Tape and Reel; Manufacturer: On Semiconductor; PartNumber: CM2020-00TR; Direction: Unidirectional; IR Max (uA): 1; Number of Lines: 19; DatasheetVersion: Rev. 5; PackageVersion: Rev. O, 07/2008; PackageReference: TSSOP-38-948AG-01; PackageDescription: 38-Pin Small Outline Package, Body 9.7 x 4.4 mm, Pitch 0.5 mm; Supplier 1: Digi-Key; Supplier Part Number 1: CM2020-00TROSTR-ND; Supplier 2: Digi-Key; Supplier Part Number 2: CM2020-00TROSCT-ND; Supplier 3: Digi-Key; Supplier Part Number 3: CM2020-00TROSDKR-ND; Supplier 4: Newark; Supplier Part Number 4: 99R2637; Supplier 5: Mouser; Supplier Part Number 5: 748-CM2020-00TR; Packing: Tape and Reel; RoHS: Pb-Free; Mounting Technology: Surface Mount; Code_JEDEC: MO-153; ComponentLink1Description: Manufacturer URL; ComponentLink1URL: http://www.onsemi.com/; ComponentLink2Description: Datasheet; ComponentLink2URL: http://www.onsemi.com/pub_link/Collateral/CM2020-00TR-D.PDF; ComponentLink3Description: Package Specification; ComponentLink3URL: http://www.onsemi.com/pub_link/Collateral/948AG.PDF
footprint ONSC-TSSOP-38-948AG-01_N (SOP, 38-Leads, Body 9.8x4.5mm, Pitch 0.5mm, IPC Medium Density)
footprint ONSC-TSSOP-38-948AG-01_L (SOP, 38-Leads, Body 9.8x4.5mm, Pitch 0.5mm, IPC High Density)
footprint ONSC-TSSOP-38-948AG-01_M (SOP, 38-Leads, Body 9.8x4.5mm, Pitch 0.5mm, IPC Low Density)
part A pins: 4 TMDS_D2+ "TMDS 0.9 pF ESD Protection", 6 TMDS_D2- "TMDS 0.9 pF ESD Protection", 7 TMDS_D1+ "TMDS 0.9 pF ESD Protection", 9 TMDS_D1- "TMDS 0.9 pF ESD Protection", 10 TMDS_D0+ "TMDS 0.9 pF ESD Protection", 12 TMDS_D0- "TMDS 0.9 pF ESD Protection", 13 TMDS_CK+ "TMDS 0.9 pF ESD Protection", 15 TMDS_CK- "TMDS 0.9 pF ESD Protection", 24 TMDS_CK- "TMDS 0.9 pF ESD Protection", 26 TMDS_CK+ "TMDS 0.9 pF ESD Protection", 27 TMDS_D0- "TMDS 0.9 pF ESD Protection", 29 TMDS_D0+ "TMDS 0.9 pF ESD Protection", 30 TMDS_D1- "TMDS 0.9 pF ESD Protection", 32 TMDS_D1+ "TMDS 0.9 pF ESD Protection", 33 TMDS_D2- "TMDS 0.9 pF ESD Protection", 35 TMDS_D2+ "TMDS 0.9 pF ESD Protection"
part B pins: 16 CE_REMOTE_IN (in) "LV_SUPPLY Referenced Logic Level into ASIC", 17 DDC_CLK_IN (in) "LV_SUPPLY Referenced Logic Level into ASIC", 18 DDC_DAT_IN (in) "LV_SUPPLY Referenced Logic Level into ASIC", 19 HOTPLUG_DET_IN (in) "LV_SUPPLY Referenced Logic Level into ASIC", 20 HOTPLUG_DET_OUT (out) "5V_SUPPLY Referenced Logic Level Out plus 3.5 pF ESD to Connector", 21 DDC_DAT_OUT (out) "5V_SUPPLY Referenced Logic Level Out plus 3.5 pF ESD to Connector", 22 DDC_CLK_OUT (out) "5V_SUPPLY Referenced Logic Level Out plus 3.5 pF ESD to Connector", 23 CE_REMOTE_OUT (out) "5V_SUPPLY Referenced Logic Level Out plus 3.5 pF ESD to Connector", 37 ESD_BYP "This Pin must be Connected to a 0.1 uF Ceramic Capacitor", 38 5V_OUT (out) "55 mA Minimum Overcurrent Protected 5 V Output. This Output Must be Bypassed with a 0.1 uF Ceramic Capacitor."
part C pins: 1 5V_SUPPLY (power) "Current Source for 5V_OUT", 2 LV_SUPPLY (power) "Bias for CE / DDC / HOTPLUG Level Shifters", 3 GND (power) "Supply GND Reference", 5 TMDS_GND (power) "TMDS ESD and Parasitic GND Return", 8 TMDS_GND (power) "TMDS ESD and Parasitic GND Return", 11 TMDS_GND (power) "TMDS ESD and Parasitic GND Return", 14 TMDS_GND (power) "TMDS ESD and Parasitic GND Return", 25 TMDS_GND (power) "TMDS ESD and Parasitic GND Return", 28 TMDS_GND (power) "TMDS ESD and Parasitic GND Return", 31 TMDS_GND (power) "TMDS ESD and Parasitic GND Return", 34 TMDS_GND (power) "TMDS ESD and Parasitic GND Return", 36 GND (power) "Supply GND Reference"

## CM2020-01TR
designator U?
HDMI Transmitter Port Protection and Interface Device, 38-Pin TSSOP, Pb-Free, Tape and Reel; Manufacturer: On Semiconductor; PartNumber: CM2020-01TR; Direction: Unidirectional; IR Max (uA): 1; Number of Lines: 19; DatasheetVersion: Rev. 5; PackageVersion: Rev. O, 07/2008; PackageReference: TSSOP-38-948AG-01; PackageDescription: 38-Pin Small Outline Package, Body 9.7 x 4.4 mm, Pitch 0.5 mm; Supplier 1: Digi-Key; Supplier Part Number 1: CM2020-01TROSTR-ND; Supplier 2: Digi-Key; Supplier Part Number 2: CM2020-01TROSCT-ND; Supplier 3: Digi-Key; Supplier Part Number 3: CM2020-01TROSDKR-ND; Supplier 4: Newark; Supplier Part Number 4: 99R2638; Supplier 5: Mouser; Supplier Part Number 5: 748-CM2020-01TR; Packing: Tape and Reel; RoHS: Pb-Free; Mounting Technology: Surface Mount; Code_JEDEC: MO-153; ComponentLink1Description: Manufacturer URL; ComponentLink1URL: http://www.onsemi.com/; ComponentLink2Description: Datasheet; ComponentLink2URL: http://www.onsemi.com/pub_link/Collateral/CM2020-01TR-D.PDF; ComponentLink3Description: Package Specification; ComponentLink3URL: http://www.onsemi.com/pub_link/Collateral/948AG.PDF
footprint ONSC-TSSOP-38-948AG-01_N (SOP, 38-Leads, Body 9.8x4.5mm, Pitch 0.5mm, IPC Medium Density)
footprint ONSC-TSSOP-38-948AG-01_L (SOP, 38-Leads, Body 9.8x4.5mm, Pitch 0.5mm, IPC High Density)
footprint ONSC-TSSOP-38-948AG-01_M (SOP, 38-Leads, Body 9.8x4.5mm, Pitch 0.5mm, IPC Low Density)
part A pins: 4 TMDS_D2+ "TMDS 0.9 pF ESD Protection", 6 TMDS_D2- "TMDS 0.9 pF ESD Protection", 7 TMDS_D1+ "TMDS 0.9 pF ESD Protection", 9 TMDS_D1- "TMDS 0.9 pF ESD Protection", 10 TMDS_D0+ "TMDS 0.9 pF ESD Protection", 12 TMDS_D0- "TMDS 0.9 pF ESD Protection", 13 TMDS_CK+ "TMDS 0.9 pF ESD Protection", 15 TMDS_CK- "TMDS 0.9 pF ESD Protection", 24 TMDS_CK- "TMDS 0.9 pF ESD Protection", 26 TMDS_CK+ "TMDS 0.9 pF ESD Protection", 27 TMDS_D0- "TMDS 0.9 pF ESD Protection", 29 TMDS_D0+ "TMDS 0.9 pF ESD Protection", 30 TMDS_D1- "TMDS 0.9 pF ESD Protection", 32 TMDS_D1+ "TMDS 0.9 pF ESD Protection", 33 TMDS_D2- "TMDS 0.9 pF ESD Protection", 35 TMDS_D2+ "TMDS 0.9 pF ESD Protection"
part B pins: 16 CE_REMOTE_IN (in) "LV_SUPPLY Referenced Logic Level into ASIC", 17 DDC_CLK_IN (in) "LV_SUPPLY Referenced Logic Level into ASIC", 18 DDC_DAT_IN (in) "LV_SUPPLY Referenced Logic Level into ASIC", 19 HOTPLUG_DET_IN (in) "LV_SUPPLY Referenced Logic Level into ASIC", 20 HOTPLUG_DET_OUT (out) "5V_SUPPLY Referenced Logic Level Out plus 3.5 pF ESD to Connector", 21 DDC_DAT_OUT (out) "5V_SUPPLY Referenced Logic Level Out plus 3.5 pF ESD to Connector", 22 DDC_CLK_OUT (out) "5V_SUPPLY Referenced Logic Level Out plus 3.5 pF ESD to Connector", 23 CE_REMOTE_OUT (out) "5V_SUPPLY Referenced Logic Level Out plus 3.5 pF ESD to Connector", 37 ESD_BYP "This Pin must be Connected to a 0.1 uF Ceramic Capacitor", 38 5V_OUT (out) "55 mA Minimum Overcurrent Protected 5 V Output. This Output Must be Bypassed with a 0.1 uF Ceramic Capacitor."
part C pins: 1 5V_SUPPLY (power) "Current Source for 5V_OUT", 2 LV_SUPPLY (power) "Bias for CE / DDC / HOTPLUG Level Shifters", 3 GND (power) "Supply GND Reference", 5 TMDS_GND (power) "TMDS ESD and Parasitic GND Return", 8 TMDS_GND (power) "TMDS ESD and Parasitic GND Return", 11 TMDS_GND (power) "TMDS ESD and Parasitic GND Return", 14 TMDS_GND (power) "TMDS ESD and Parasitic GND Return", 25 TMDS_GND (power) "TMDS ESD and Parasitic GND Return", 28 TMDS_GND (power) "TMDS ESD and Parasitic GND Return", 31 TMDS_GND (power) "TMDS ESD and Parasitic GND Return", 34 TMDS_GND (power) "TMDS ESD and Parasitic GND Return", 36 GND (power) "Supply GND Reference"

## DF3A6.8FUT1
designator D?
Zener Transient Voltage Suppressor, Dual Common Anode Zeners for ESD Protection, 3-Pin SC70, Tape and Reel; Manufacturer: On Semiconductor; PartNumber: DF3A6.8FUT1; Direction: Unidirectional; IR Max (uA): 0.5; Number of Lines: 2; V(BR) Min (V): 6.4; DatasheetVersion: Rev. 1; PackageVersion: Rev. N, 11/2008; PackageReference: SC-70-3-419-04; PackageDescription: 3-Pin Small Outline Transistor, Body 2 x 1.25 mm, Pitch 0.65 mm; Supplier 1: Digi-Key; Supplier Part Number 1: DF3A6.8FUT1OSTR-ND; Supplier 2: Digi-Key; Supplier Part Number 2: DF3A6.8FUT1OSCT-ND; Packing: Tape and Reel; Mounting Technology: Surface Mount; ComponentLink1Description: Manufacturer URL; ComponentLink1URL: http://www.onsemi.com/; ComponentLink2Description: Datasheet; ComponentLink2URL: http://www.onsemi.com/pub_link/Collateral/DF3A6.8FUT1-D.PDF; ComponentLink3Description: Package Specification; ComponentLink3URL: http://www.onsemi.cn/pub_link/Collateral/419-04.PDF
footprint ONSC-SC-70-3-419-04_V (SOT23, 3-Leads, Body 2x1.25mm, Pitch 0.65mm)
pins: 1 K1, 2 K2, 3 A

## DF3A6.8FUT1G
designator D?
Zener Transient Voltage Suppressor, Dual Common Anode Zeners for ESD Protection, 3-Pin SC70, Pb-Free, Tape and Reel; Manufacturer: On Semiconductor; PartNumber: DF3A6.8FUT1G; Direction: Unidirectional; IR Max (uA): 0.5; Number of Lines: 2; DatasheetVersion: Rev. 1; PackageVersion: Rev. N, 11/2008; PackageReference: SC-70-3-419-04; PackageDescription: 3-Pin Small Outline Transistor, Body 2 x 1.25 mm, Pitch 0.65 mm; Supplier 1: Digi-Key; Supplier Part Number 1: DF3A6.8FUT1GOSTR-ND; Supplier 2: Digi-Key; Supplier Part Number 2: DF3A6.8FUT1GOSCT-ND; Supplier 3: Digi-Key; Supplier Part Number 3: DF3A6.8FUT1GOSDKR-ND; Supplier 4: Farnell; Supplier Part Number 4: 1700967; Supplier 5: Newark; Supplier Part Number 5: 10N9400; Supplier 6: Newark; Supplier Part Number 6: 71J3615; Supplier 7: Mouser; Supplier Part Number 7: 863-DF3A6.8FUT1G; Packing: Tape and Reel; RoHS: Pb-Free; Mounting Technology: Surface Mount; ComponentLink1Description: Manufacturer URL; ComponentLink1URL: http://www.onsemi.com/; ComponentLink2Description: Datasheet; ComponentLink2URL: http://www.onsemi.com/pub_link/Collateral/DF3A6.8FUT1-D.PDF; ComponentLink3Description: Package Specification; ComponentLink3URL: http://www.onsemi.cn/pub_link/Collateral/419-04.PDF
footprint ONSC-SC-70-3-419-04_V (SOT23, 3-Leads, Body 2x1.25mm, Pitch 0.65mm)
pins: 1 K1, 2 K2, 3 A

## DF6A6.8FUT1
designator D?
Quad Array for ESD Protection, 6-Pin SC70, Tape and Reel; Manufacturer: On Semiconductor; PartNumber: DF6A6.8FUT1; Direction: Unidirectional; IR Max (uA): 1; Number of Lines: 4; PPK Max (W): 75; V(BR) Min (V): 6.4; DatasheetVersion: Rev. 2; PackageVersion: Rev. W; PackageReference: SC70-6-419B-02_W; PackageDescription: 6-Pin Small Outline Transistor, Body 2 x 1.25 mm, Pitch 0.65 mm; Supplier 1: Digi-Key; Supplier Part Number 1: DF6A6.8FUT1OS-ND; Packing: Tape and Reel; Mounting Technology: Surface Mount; ComponentLink1Description: Manufacturer URL; ComponentLink1URL: http://www.onsemi.com/; ComponentLink2Description: Datasheet; ComponentLink2URL: http://www.onsemi.com/pub_link/Collateral/DF6A6.8FUT1-D.PDF; ComponentLink3Description: Package Specification; ComponentLink3URL: http://www.onsemi.com/pub_link/Collateral/SMF05C-D.PDF
footprint ONSC-SC70-6-419B-02_W_V (SOT23, 6-Leads, Body 2x1.25mm, Pitch 0.65mm)
part A pins: 1, 2, 6
part B pins: 3, 4, 5

## DF6A6.8FUT1G
designator D?
Quad Array for ESD Protection, 6-Pin SC70, Pb-Free, Tape and Reel; Manufacturer: On Semiconductor; PartNumber: DF6A6.8FUT1G; Direction: Unidirectional; IR Max (uA): 1; Number of Lines: 4; PPK Max (W): 75; V(BR) Min (V): 6.4; DatasheetVersion: Rev. 2; PackageVersion: Rev. W; PackageReference: SC70-6-419B-02_W; PackageDescription: 6-Pin Small Outline Transistor, Body 2 x 1.25 mm, Pitch 0.65 mm; Supplier 1: Digi-Key; Supplier Part Number 1: DF6A6.8FUT1GOSTR-ND; Supplier 2: Digi-Key; Supplier Part Number 2: DF6A6.8FUT1GOSCT-ND; Supplier 3: Digi-Key; Supplier Part Number 3: DF6A6.8FUT1GOSDKR-ND; Supplier 4: Newark; Supplier Part Number 4: 88H4596; Supplier 5: Mouser; Supplier Part Number 5: 863-DF6A6.8FUT1G; Packing: Tape and Reel; RoHS: Pb-Free; Mounting Technology: Surface Mount; ComponentLink1Description: Manufacturer URL; ComponentLink1URL: http://www.onsemi.com/; ComponentLink2Description: Datasheet; ComponentLink2URL: http://www.onsemi.com/pub_link/Collateral/DF6A6.8FUT1-D.PDF; ComponentLink3Description: Package Specification; ComponentLink3URL: http://www.onsemi.com/pub_link/Collateral/SMF05C-D.PDF
footprint ONSC-SC70-6-419B-02_W_V (SOT23, 6-Leads, Body 2x1.25mm, Pitch 0.65mm)
part A pins: 1, 2, 6
part B pins: 3, 4, 5

## DF6A6.8FUT2G
designator D?
Quad Array for ESD Protection, 6-Pin SC70, Pb-Free, Tape and Reel; Manufacturer: On Semiconductor; PartNumber: DF6A6.8FUT2G; Direction: Unidirectional; IR Max (uA): 1; Number of Lines: 4; PPK Max (W): 75; V(BR) Min (V): 6.4; DatasheetVersion: Rev. 2; PackageVersion: Rev. W; PackageReference: SC70-6-419B-02_W; PackageDescription: 6-Pin Small Outline Transistor, Body 2 x 1.25 mm, Pitch 0.65 mm; Packing: Tape and Reel; RoHS: Pb-Free; Mounting Technology: Surface Mount; ComponentLink1Description: Manufacturer URL; ComponentLink1URL: http://www.onsemi.com/; ComponentLink2Description: Datasheet; ComponentLink2URL: http://www.onsemi.com/pub_link/Collateral/DF6A6.8FUT1-D.PDF; ComponentLink3Description: Package Specification; ComponentLink3URL: http://www.onsemi.com/pub_link/Collateral/SMF05C-D.PDF
footprint ONSC-SC70-6-419B-02_W_V (SOT23, 6-Leads, Body 2x1.25mm, Pitch 0.65mm)
part A pins: 1, 2, 6
part B pins: 3, 4, 5

## ESD5B5.0ST1G
designator D?
Transient Voltage Suppressor, Micro-Packaged Diode for ESD Protection, 2-Pin SOD-523, Pb-Free, Tape and Reel; Manufacturer: On Semiconductor; PartNumber: ESD5B5.0ST1G; Direction: Bidirectional; IR Max (uA): 1; V(BR) Min (V): 5.8; VRWM Max (V): 5; DatasheetVersion: Rev. 3; PackageVersion: Rev. C, 03/2007; PackageReference: SOD-523-2-502-01_C; PackageDescription: 2-Pin SOD, Body 1.2 x 0.8 mm; Supplier 1: Digi-Key; Supplier Part Number 1: ESD5B5.0ST1GOSTR-ND; Supplier 2: Digi-Key; Supplier Part Number 2: ESD5B5.0ST1GOSCT-ND; Supplier 3: Digi-Key; Supplier Part Number 3: ESD5B5.0ST1GOSDKR-ND; Supplier 4: Farnell; Supplier Part Number 4: 2317513; Supplier 5: Farnell; Supplier Part Number 5: 1885802; Supplier 6: Newark; Supplier Part Number 6: 10N9401; Supplier 7: Newark; Supplier Part Number 7: 27M2350; Supplier 8: Newark; Supplier Part Number 8: 90W4400; Supplier 9: Mouser; Supplier Part Number 9: 863-ESD5B50ST1G; Number of Lines: 1; Packing: Tape and Reel; RoHS: Pb-Free; Mounting Technology: Surface Mount; ComponentLink1Description: Manufacturer URL; ComponentLink1URL: http://www.onsemi.com/; ComponentLink2Description: Datasheet; ComponentLink2URL: http://www.onsemi.cn/pub_link/Collateral/ESD5B5.0ST1G.PDF; ComponentLink3Description: Package Specification; ComponentLink3URL: http://www.onsemi.cn/pub_link/Collateral/ESD5B5.0ST1G.PDF
footprint ONSC-SOD-523-2-502-01_C_V (SOD, 2-Leads, Body 1.2x0.8mm)
pins: 1 A1, 2 A2

## ESD5Z2.5T1G
designator D?
Transient Voltage Suppressor, Micro-Packaged Diode for ESD Protection, 2-Pin SOD-523, Pb-Free, Tape and Reel; Manufacturer: On Semiconductor; PartNumber: ESD5Z2.5T1G; Direction: Unidirectional; IR Max (uA): 6; Number of Lines: 1; PPK Max (W): 120; V(BR) Min (V): 4; VRWM Max (V): 2.5; DatasheetVersion: Rev. 10; PackageVersion: Rev. E, 09/2010; PackageReference: SOD-523-2-502-01; PackageDescription: 2-Pin SOD, Body 1.2 x 0.8 mm; Supplier 1: Digi-Key; Supplier Part Number 1: ESD5Z2.5T1GOSTR-ND; Supplier 2: Digi-Key; Supplier Part Number 2: ESD5Z2.5T1GOSCT-ND; Supplier 3: Digi-Key; Supplier Part Number 3: ESD5Z2.5T1GOSDKR-ND; Supplier 4: Farnell; Supplier Part Number 4: 1861211; Supplier 5: Newark; Supplier Part Number 5: 09R9413; Supplier 6: Newark; Supplier Part Number 6: 41K9782; Supplier 7: Mouser; Supplier Part Number 7: 863-ESD5Z2.5T1G; Packing: Tape and Reel; RoHS: Pb-Free; Mounting Technology: Surface Mount; ComponentLink1Description: Manufacturer URL; ComponentLink1URL: http://www.onsemi.com/; ComponentLink2Description: Datasheet; ComponentLink2URL: http://www.onsemi.cn/pub_link/Collateral/ESD5Z2.5T1-D.PDF; ComponentLink3Description: Package Specification; ComponentLink3URL: http://www.onsemi.com/pub_link/Collateral/502-01.PDF
footprint ONSC-SOD-523-2-502-01_V (SOD, 2-Leads, Body 1.2x0.8mm)
pins: 1 K, 2 A

## ESD5Z3.3T1G
designator D?
Transient Voltage Suppressor, Micro-Packaged Diode for ESD Protection, 2-Pin SOD-523, Pb-Free, Tape and Reel; Manufacturer: On Semiconductor; PartNumber: ESD5Z3.3T1G; Direction: Unidirectional; IR Max (uA): 0.05; Number of Lines: 1; PPK Max (W): 158; V(BR) Min (V): 5; VRWM Max (V): 3.3; DatasheetVersion: Rev. 10; PackageVersion: Rev. E, 09/2010; PackageReference: SOD-523-2-502-01; PackageDescription: 2-Pin SOD, Body 1.2 x 0.8 mm; Supplier 1: Digi-Key; Supplier Part Number 1: ESD5Z3.3T1GOSTR-ND; Supplier 2: Digi-Key; Supplier Part Number 2: ESD5Z3.3T1GOSCT-ND; Supplier 3: Digi-Key; Supplier Part Number 3: ESD5Z3.3T1GOSDKR-ND; Supplier 4: Farnell; Supplier Part Number 4: 2317508; Supplier 5: Farnell; Supplier Part Number 5: 2317778; Supplier 6: Newark; Supplier Part Number 6: 41K9783; Supplier 7: Newark; Supplier Part Number 7: 10N9403; Supplier 8: Mouser; Supplier Part Number 8: 863-ESD5Z3.3T1G; Packing: Tape and Reel; RoHS: Pb-Free; Mounting Technology: Surface Mount; ComponentLink1Description: Manufacturer URL; ComponentLink1URL: http://www.onsemi.com/; ComponentLink2Description: Datasheet; ComponentLink2URL: http://www.onsemi.cn/pub_link/Collateral/ESD5Z2.5T1-D.PDF; ComponentLink3Description: Package Specification; ComponentLink3URL: http://www.onsemi.com/pub_link/Collateral/502-01.PDF
footprint ONSC-SOD-523-2-502-01_V (SOD, 2-Leads, Body 1.2x0.8mm)
pins: 1 K, 2 A

## ESD5Z5.0T1G
designator D?
Transient Voltage Suppressor, Micro-Packaged Diode for ESD Protection, 2-Pin SOD-523, Pb-Free, Tape and Reel; Manufacturer: On Semiconductor; PartNumber: ESD5Z5.0T1G; Direction: Unidirectional; IR Max (uA): 0.05; Number of Lines: 1; PPK Max (W): 174; V(BR) Min (V): 6.2; VRWM Max (V): 5; DatasheetVersion: Rev. 10; PackageVersion: Rev. E, 09/2010; PackageReference: SOD-523-2-502-01; PackageDescription: 2-Pin SOD, Body 1.2 x 0.8 mm; Supplier 1: Digi-Key; Supplier Part Number 1: ESD5Z5.0T1GOSTR-ND; Supplier 2: Digi-Key; Supplier Part Number 2: ESD5Z5.0T1GOSCT-ND; Supplier 3: Digi-Key; Supplier Part Number 3: ESD5Z5.0T1GOSDKR-ND; Supplier 4: Farnell; Supplier Part Number 4: 2317510; Supplier 5: Farnell; Supplier Part Number 5: 2317782; Supplier 6: Newark; Supplier Part Number 6: 41K9784; Supplier 7: Newark; Supplier Part Number 7: 10N9404; Supplier 8: Mouser; Supplier Part Number 8: 863-ESD5Z5.0T1G; Packing: Tape and Reel; RoHS: Pb-Free; Mounting Technology: Surface Mount; ComponentLink1Description: Manufacturer URL; ComponentLink1URL: http://www.onsemi.com/; ComponentLink2Description: Datasheet; ComponentLink2URL: http://www.onsemi.cn/pub_link/Collateral/ESD5Z2.5T1-D.PDF; ComponentLink3Description: Package Specification; ComponentLink3URL: http://www.onsemi.com/pub_link/Collateral/502-01.PDF
footprint ONSC-SOD-523-2-502-01_V (SOD, 2-Leads, Body 1.2x0.8mm)
pins: 1 K, 2 A

## ESD5Z6.0T1G
designator D?
Transient Voltage Suppressor, Micro-Packaged Diode for ESD Protection, 2-Pin SOD-523, Pb-Free, Tape and Reel; Manufacturer: On Semiconductor; PartNumber: ESD5Z6.0T1G; Direction: Unidirectional; IR Max (uA): 0.01; Number of Lines: 1; PPK Max (W): 181; V(BR) Min (V): 6.8; VRWM Max (V): 6; DatasheetVersion: Rev. 10; PackageVersion: Rev. E, 09/2010; PackageReference: SOD-523-2-502-01; PackageDescription: 2-Pin SOD, Body 1.2 x 0.8 mm; Supplier 1: Digi-Key; Supplier Part Number 1: ESD5Z6.0T1GOSTR-ND; Supplier 2: Digi-Key; Supplier Part Number 2: ESD5Z6.0T1GOSCT-ND; Supplier 3: Digi-Key; Supplier Part Number 3: ESD5Z6.0T1GOSDKR-ND; Supplier 4: Farnell; Supplier Part Number 4: 2317798; Supplier 5: Newark; Supplier Part Number 5: 41K9785; Supplier 6: Newark; Supplier Part Number 6: 10N9405; Supplier 7: Mouser; Supplier Part Number 7: 863-ESD5Z6.0T1G; Packing: Tape and Reel; RoHS: Pb-Free; Mounting Technology: Surface Mount; ComponentLink1Description: Manufacturer URL; ComponentLink1URL: http://www.onsemi.com/; ComponentLink2Description: Datasheet; ComponentLink2URL: http://www.onsemi.cn/pub_link/Collateral/ESD5Z2.5T1-D.PDF; ComponentLink3Description: Package Specification; ComponentLink3URL: http://www.onsemi.com/pub_link/Collateral/502-01.PDF
footprint ONSC-SOD-523-2-502-01_V (SOD, 2-Leads, Body 1.2x0.8mm)
pins: 1 K, 2 A

## ESD5Z7.0T1G
designator D?
Transient Voltage Suppressor, Micro-Packaged Diode for ESD Protection, 2-Pin SOD-523, Pb-Free, Tape and Reel; Manufacturer: On Semiconductor; PartNumber: ESD5Z7.0T1G; Direction: Unidirectional; IR Max (uA): 0.01; Number of Lines: 1; PPK Max (W): 200; V(BR) Min (V): 7.5; VRWM Max (V): 7; DatasheetVersion: Rev. 10; PackageVersion: Rev. E, 09/2010; PackageReference: SOD-523-2-502-01; PackageDescription: 2-Pin SOD, Body 1.2 x 0.8 mm; Supplier 1: Digi-Key; Supplier Part Number 1: ESD5Z7.0T1GOSTR-ND; Supplier 2: Digi-Key; Supplier Part Number 2: ESD5Z7.0T1GOSCT-ND; Supplier 3: Digi-Key; Supplier Part Number 3: ESD5Z7.0T1GOSDKR-ND; Supplier 4: Farnell; Supplier Part Number 4: 2317779; Supplier 5: Farnell; Supplier Part Number 5: 1892645; Supplier 6: Newark; Supplier Part Number 6: 41K9786; Supplier 7: Newark; Supplier Part Number 7: 09R9414; Supplier 8: Mouser; Supplier Part Number 8: 863-ESD5Z7.0T1G; Packing: Tape and Reel; RoHS: Pb-Free; Mounting Technology: Surface Mount; ComponentLink1Description: Manufacturer URL; ComponentLink1URL: http://www.onsemi.com/; ComponentLink2Description: Datasheet; ComponentLink2URL: http://www.onsemi.cn/pub_link/Collateral/ESD5Z2.5T1-D.PDF; ComponentLink3Description: Package Specification; ComponentLink3URL: http://www.onsemi.com/pub_link/Collateral/502-01.PDF
footprint ONSC-SOD-523-2-502-01_V (SOD, 2-Leads, Body 1.2x0.8mm)
pins: 1 K, 2 A